# Altium footprint library Vowstar_Antenna.PcbLib: 16 footprints
Each footprint in its own frame and in the unit in brackets; x right, y up, seen from the top. Pads: shape width x height; smd on the part's side, far side on the other; paste and mask are expansions set on the pad; w line width, h text height; cw(c..) or ccw(c..) is an arc to the next point about the centre after c.
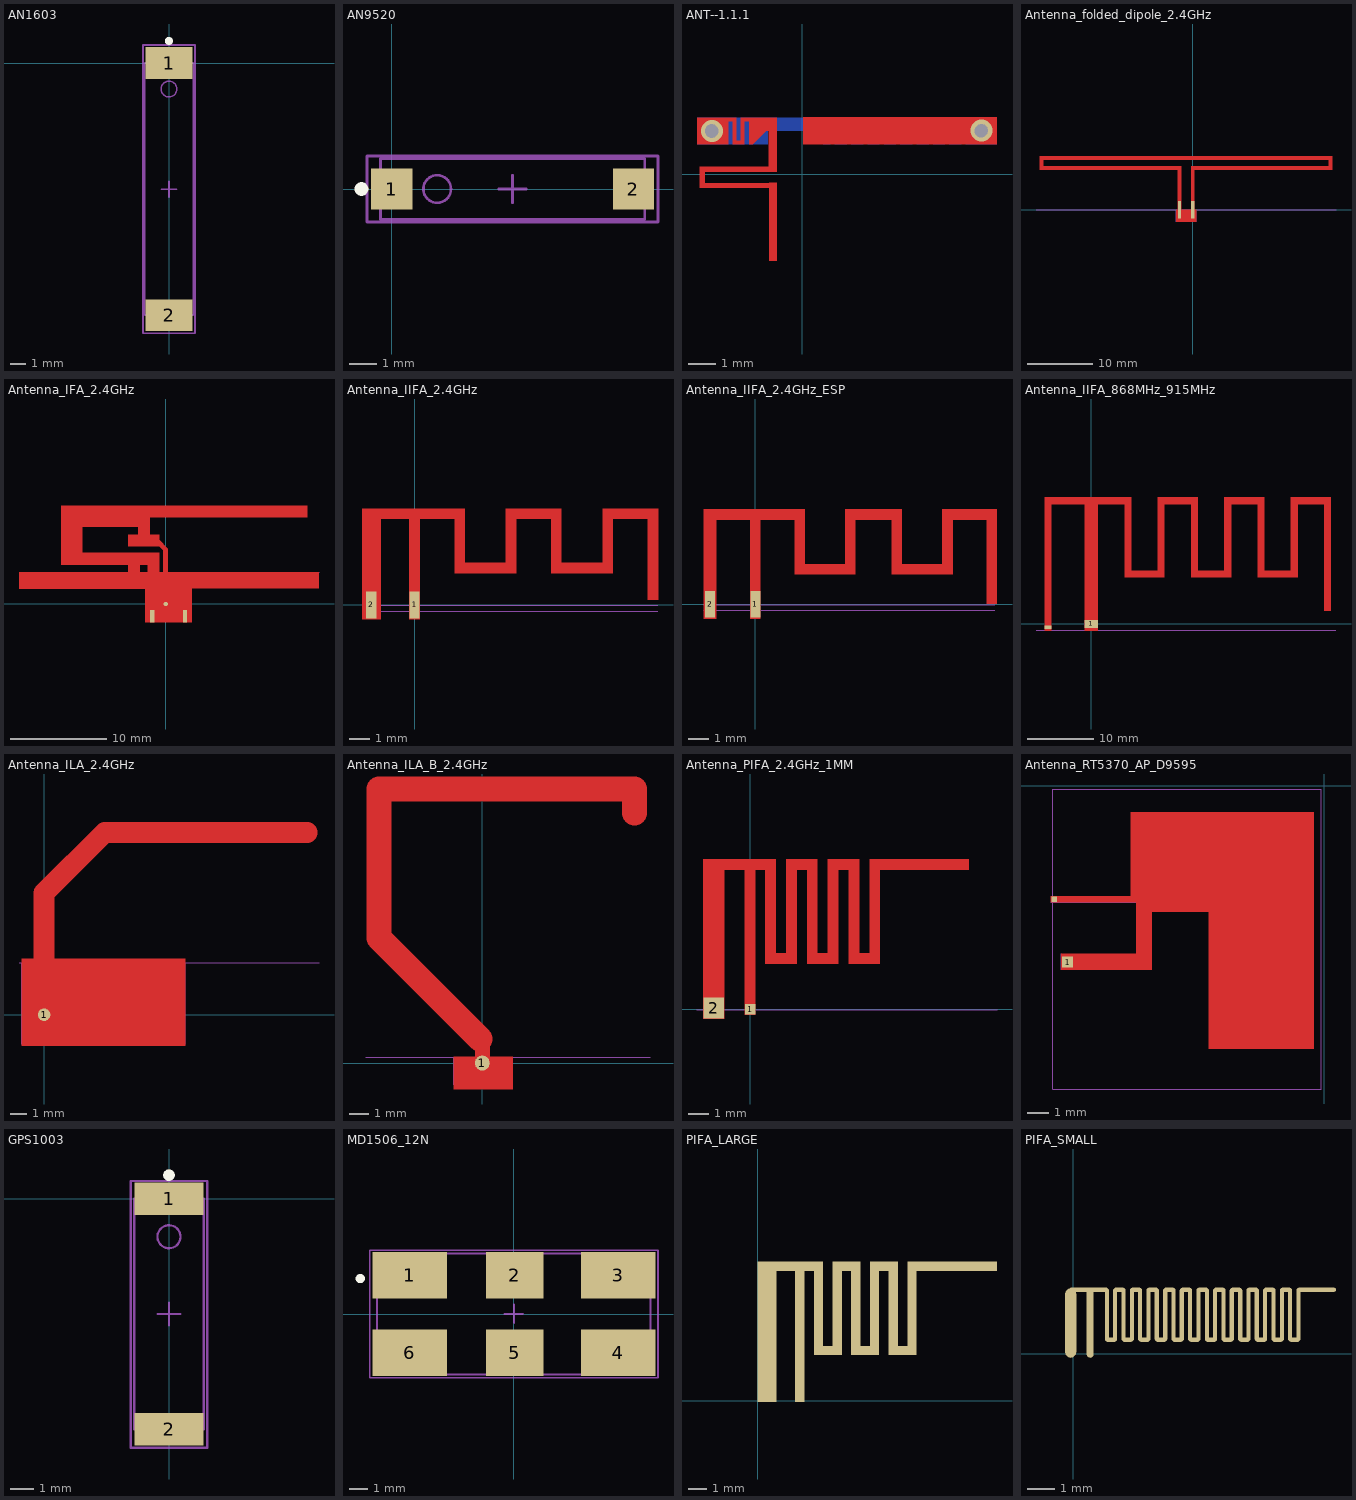
[diagram p0: the footprints below, top view; thin cyan lines are the x and y axes]

## AN1603 [mm] "AN1603 433MHz Multilayer Chip Antenna"
height 1.65
pads (2):
  rect 3x2 smd: 1(0,0) 2(0,-16)
Top Overlay:
  circle w0.25: c0,1.397 r0.125
Mechanical 13:
  circle w0.1: c0,-1.651 r0.5
  lines w0.1: -1.55,-16 1.55,-16 1.55,0 -1.55,0 -1.55,-16
  text "433MHz" at -1.27,-1.27 h0.25
Mechanical 15:
  lines w0.1: -0.5,-8 0.5,-8 ; 0,-8.5 0,-7.5 ; -1.651,-17.145 1.651,-17.145 1.651,1.143 -1.651,1.143 -1.651,-17.145
3D body: height 1.66, standoff -0.01, extent -1.56,-16 1.56,0

## AN9520 [mm] "AN9520  Multilayer Chip Antenna for  2.4GHz Wireless Communication"
height 1
pads (2):
  rect 1.5x1.5 smd: 1(0,0) 2(8.763,0)
Top Overlay:
  circle w0.25: c-1.092,0 r0.125
Mechanical 13:
  circle w0.1: c1.651,0 r0.5
  lines w0.1: -0.406,-1.092 9.169,-1.092 9.169,1.092 -0.406,1.092 -0.406,-1.092
  text "2.4GHz" at 0.991,-0.787 h0.25
Mechanical 15:
  lines w0.1: 3.881,0 4.881,0 ; 4.381,-0.5 4.381,0.5 ; -0.889,-1.194 9.652,-1.194 9.652,1.194 -0.889,1.194 -0.889,-1.194
3D body: height 1.05, standoff 0, extent -0.368,-1.05 9.132,1.05

## ANT--1.1.1 [mm]
via -3.308,1.591 diameter 0.8 hole 0.5
via 6.577,1.603 diameter 0.8 hole 0.5
Top Layer:
  region: -1.81,1.094 -1.102,1.801 -1.218,1.917 -1.926,1.21
  rectangle: -1.939,1.252 -1.767,1.623
  rectangle: -1.845,1.094 -1.809,1.264
  rectangle: -1.889,1.367 -1.541,1.504
  rectangle: -1.215,-3.175 -0.915,-0.307
  rectangle: -1.845,1.592 -0.924,2.093
  rectangle: -1.944,1.094 -1.845,2.093
  rectangle: -3.853,1.093 -2.703,2.092
  rectangle: -2.553,1.093 -2.403,2.092
  rectangle: -2.253,1.093 -2.103,2.092
  rectangle: -2.474,1.093 -2.103,1.243
  rectangle: -2.731,1.942 -2.543,2.092
  rectangle: -2.125,1.943 -1.921,2.093
  rectangle: -1.224,0.094 -0.924,2.093
  rectangle: -3.754,0.093 -1.174,0.293
  rectangle: -3.553,-0.506 -1.214,-0.308
  rectangle: -1.896,1.598 -1.299,1.74
  rectangle: -1.883,1.496 -1.413,1.699
  rectangle: -1.879,1.253 -1.658,1.285
  rectangle: -1.883,1.196 -1.772,1.242
  rectangle: -3.754,-0.507 -3.554,0.293
  rectangle: 0.038,1.093 7.148,2.101
Bottom Layer:
  rectangle: 0.774,1.093 0.947,1.175
  region: 0.865,1.184 0.043,2.006 -0.048,1.915 0.774,1.093
  rectangle: 0.947,1.093 1.046,2.092
  rectangle: 0.813,1.158 0.99,1.762
  rectangle: 1.499,1.093 1.646,2.092
  rectangle: -3.853,1.093 -1.252,2.092
  rectangle: -1.364,1.594 1.046,2.092
  rectangle: 0.391,1.474 0.957,1.68
  rectangle: 0.518,1.34 0.993,1.568
  rectangle: 0.663,1.208 0.937,1.424
  rectangle: 1.196,1.093 1.346,2.092
  rectangle: 1.798,1.093 1.948,2.092
  rectangle: 2.098,1.093 2.248,2.092
  rectangle: 2.398,1.093 2.548,2.092
  rectangle: 2.697,1.093 2.847,2.092
  rectangle: 2.997,1.093 3.147,2.092
  rectangle: 3.297,1.093 3.447,2.092
  rectangle: 3.597,1.093 3.746,2.092
  rectangle: 3.896,1.093 4.046,2.092
  rectangle: 4.196,1.093 4.346,2.092
  rectangle: 4.498,1.093 4.646,2.092
  rectangle: 4.796,1.093 4.948,2.092
  rectangle: 5.098,1.093 5.248,2.092
  rectangle: 5.397,1.093 5.547,2.092
  rectangle: 5.697,1.093 5.847,2.092
  rectangle: 5.816,1.942 6.048,2.092
  rectangle: 5.184,1.942 5.547,2.092
  rectangle: 4.564,1.942 4.948,2.092
  rectangle: 3.985,1.942 4.346,2.092
  rectangle: 3.378,1.942 3.746,2.092
  rectangle: 2.735,1.942 3.147,2.092
  rectangle: 2.159,1.942 2.547,2.092
  rectangle: 1.562,1.942 1.948,2.092
  rectangle: 0.863,1.942 1.346,2.092
  rectangle: 1.196,1.093 1.57,1.243
  rectangle: 1.798,1.093 2.194,1.243
  rectangle: 2.448,1.093 2.847,1.243
  rectangle: 3.061,1.093 3.447,1.243
  rectangle: 3.596,1.093 3.967,1.243
  rectangle: 4.196,1.093 4.582,1.243
  rectangle: 4.795,1.093 5.164,1.243
  rectangle: 5.397,1.093 5.753,1.243
  rectangle: 5.997,1.093 7.148,2.092

## Antenna_folded_dipole_2.4GHz [mil] "Folded dipole 2.4GHz PCB Antenna"
pads (2):
  rect 20x104 smd paste+0 mask+0: 1(0,0) 2(-79.85,0)
Top Layer:
  region: -69.85,0 -89.85,0 -89.85,243 -69.85,243
  region: 10,0 -10,0 -10,243 10,243
  region: 10,300 817.8,300 817.8,323 10,323
  region: -898.74,240.17 -918.74,240.17 -918.74,323.17 -898.74,323.17
  region: -898.74,323 -90,323 -90,300 -898.74,300
  region: -90,240 -898.74,240 -898.74,263 -90,263
  region: 817.8,240.17 837.8,240.17 837.8,323.17 817.8,323.17
  region: 10,240 817.8,240 817.8,263 10,263
  region: 10,240 -10,240 -10,263 10,263
  region: -70,240 -90,240 -90,263 -70,263
  region: -90,323 10,323 10,300 -90,300
  pour cut-out: -100.5,0 20.5,0 20.5,-73 -100.5,-73
Mechanical 13:
  lines w2: -942.5,0 860.5,0 ; -100.5,-73 -100.5,0 ; 20.5,-73 20.5,0
  text "2.4GHz" at 15,7 h10
  text "TOP" at 25,-45 h10
  text "BOT" at -55,5 h10

## Antenna_IFA_2.4GHz [mm] "Inverted F 2.4 GHz PCB antenna"
pads (3):
  round 0.46 smd paste-3 mask-3: 1(0,0)
  rect 0.46x1.27 smd paste-3 mask-3: 2(-1.417,-1.27) 3(2.012,-1.27)
Top Layer:
  pour cut-out: -0.68,3.318 1.25,3.318 1.25,-1.905 -0.68,-1.905
  region: -8.68,10.228 -8.68,8.018 -2.88,8.018 -2.88,10.228
  region: -3.88,6.008 -0.68,6.008 -0.68,7.218 -3.88,7.218
  region: -10.86,5.348 -10.86,4.058 -0.68,4.058 -0.68,5.348
  region: -10.86,10.228 -8.68,10.228 -8.68,5.348 -10.86,5.348
  region: -2.88,10.228 -2.88,7.218 -1.68,7.218 -1.68,10.228
  region: -1.68,10.228 -1.68,9.018 14.72,9.018 14.72,10.228
  region: -3.88,4.087 -3.88,3.287 -2.68,3.287 -2.68,4.087
  region: -1.88,4.087 -1.88,3.287 -0.68,3.287 -0.68,4.087
  region: -15.269,1.582 -15.269,3.318 -1.171,3.318 -1.171,1.582
  region: -2.154,-1.905 -0.68,-1.905 -0.68,3.287 -2.154,3.287
  region: 1.25,-1.905 2.698,-1.905 2.698,3.318 1.25,3.318
  region: 1.682,1.626 1.682,3.318 15.957,3.318 15.957,1.626
  region: -0.23,-0.059 0.23,-0.059 0.23,5.658 -0.23,5.658
  region: 0.226,5.752 0.23,5.658 -0.165,5.492 -1.06,6.388 -0.735,6.713
Mechanical 13:
  lines w0.051: -15.269,3.302 15.957,3.302
  text "2.4GHz" at 0.341,3.446 h0.25

## Antenna_IIFA_2.4GHz [mm] "Small Size IIFA 2.4 GHz PCB antenna"
pads (2):
  rect 0.5x1.3 smd paste-3 mask-3: 1(0,0) 2(-2.1,0)
Top Layer:
  region: -2.55,4.69 -2.55,4.19 2.45,4.19 2.45,4.69
  region: -0.25,4.69 -0.25,-0.7 0.25,-0.7 0.25,4.69
  region: 11.85,4.69 11.85,0.25 11.35,0.25 11.35,4.69
  region: -2.55,4.69 -2.55,-0.7 -1.65,-0.7 -1.65,4.69
  region: 4.95,1.55 4.95,4.69 4.45,4.69 4.45,1.55
  region: 9.15,4.69 9.15,4.19 11.85,4.19 11.85,4.69
  region: 9.65,1.55 9.65,4.69 9.15,4.69 9.15,1.55
  region: 6.65,2.05 6.65,1.55 9.65,1.55 9.65,2.05
  region: 1.95,1.55 1.95,4.69 2.45,4.69 2.45,1.55
  region: 1.95,2.05 1.95,1.55 4.95,1.55 4.95,2.05
  region: 4.45,4.69 4.45,4.19 7.15,4.19 7.15,4.69
  region: 7.15,4.69 7.15,1.55 6.65,1.55 6.65,4.69
Mechanical 13:
  lines w0.051: -2.55,-0.31 11.85,-0.31 ; -2.55,-0.015 11.85,-0.015
  text "TOP" at 9.779,-0.635 h0.25
  text "BOT" at 9.779,0.051 h0.25
  text "2.4GHz" at 0.381,0.178 h0.25

## Antenna_IIFA_2.4GHz_ESP [mm] "Small Size IIFA 2.4 GHz PCB antenna"
pads (2):
  rect 0.5x1.3 smd paste-3 mask-3: 1(0,0) 2(-2.236,0)
Top Layer:
  region: -2.549,4.441 -2.549,-0.712 -1.922,-0.712 -1.922,4.441
  region: -2.549,4.188 -2.549,4.688 2.451,4.688 2.451,1.988 4.451,1.988 4.451,4.688 7.251,4.688 7.251,1.988 9.251,1.988 9.251,4.688 11.951,4.688 11.951,0.015 11.451,0.015 11.451,4.188 9.751,4.188 9.751,1.488 6.751,1.488 6.751,4.188 4.951,4.188 4.951,1.488 1.951,1.488 1.951,4.188 0.251,4.188 0.251,-0.712 -0.249,-0.712 -0.249,4.188
Mechanical 13:
  lines w0.051: -2.55,-0.31 11.85,-0.31 ; -2.55,-0.015 11.85,-0.015
  text "2.4GHz" at 0.381,0.178 h0.25
  text "BOT" at 9.779,0.051 h0.25
  text "TOP" at 9.779,-0.635 h0.25

## Antenna_IIFA_868MHz_915MHz [mm] "Small Size IIFA 868MHz/915MHz PCB antenna"
pads (2):
  rect 2x1.2 smd paste-2.54 mask-2.54: 1(0,0)
  rect 1x0.508 smd paste-2.54 mask-2.54: 2(-6.5,-0.5)
Top Layer:
  region: 31,19 36,19 36,18 31,18
  region: 31,8 30,8 30,19 31,19
  region: 26,18 25,18 25,7 26,7
  region: 36,18 35,18 35,2 36,2
  region: -1,18 -7,18 -7,19 -1,19
  region: -1,-1 1,-1 1,18 -1,18
  region: 1,18 6,18 6,19 1,19
  region: 1,19 -1,19 -1,18 1,18
  region: -7,18 -6,18 -6,-1 -7,-1
  region: 6,18 5,18 5,8 6,8
  region: 5,8 11,8 11,7 5,7
  region: 11,8 10,8 10,18 11,18
  region: 10,19 16,19 16,18 10,18
  region: 16,18 15,18 15,7 16,7
  region: 16,7 21,7 21,8 16,8
  region: 21,8 20,8 20,19 21,19
  region: 21,19 26,19 26,18 21,18
  region: 26,7 31,7 31,8 26,8
Mechanical 13:
  lines w0.051: -8.31,-0.965 36.775,-0.965
  text "868MHz/915MHz" at 1.19,-0.873 h0.25

## Antenna_ILA_2.4GHz [mil] "Inverted L 2.4 GHz PCB antenna"
pads (1):
  round 30 smd paste-100 mask-100: 1(0,0)
Top Layer:
  pour cut-out: 337,134 337,-74 -53,-74 -53,134
  lines w50: 0,0 0,291 145,436 629,436
Mechanical 13:
  lines w2: -60,124 657,124 ; -53,-71 -53,124 ; 337,-71 337,124
  text "2.4GHz" at 32,6 h10
  text "BOT" at 121,109 h10
  text "TOP" at 305,-63 h10

## Antenna_ILA_B_2.4GHz [mil] "Inverted L 2.4 GHz PCB antenna"
pads (1):
  round 30 smd paste-100 mask-100: 1(0,0)
Top Layer:
  pour cut-out: 61,13 61,-52 -57,-52 -57,13
  lines w30: 0,0 0,44.5
  lines w50: -4.4,48.3 -206.4,250.4 -206.4,548.4 303.6,548.4 ; 304.6,500.1 304.6,548.4
Mechanical 13:
  lines w2: -233.5,12 -58,12 ; -57,-43 -57,11 ; -57,12 61,12 ; 61,-43 61,12 ; 336.5,12 61,12
  text "TOP" at 29,-34 h10
  text "BOT" at 20,-3 h10
  text "2.4GHz" at 30,20 h10

## Antenna_PIFA_2.4GHz_1MM [mm] "Small Size PIFA 2.4 GHz PCB antenna"
pads (2):
  rect 0.5x0.5 smd: 1(0,0)
  rect 1x1 smd: 2(-1.75,0.06)
Top Layer:
  region: -0.25,6.95 0.25,6.95 0.25,-0.25 -0.25,-0.25
  region: -2.25,7.2 1.23,7.2 1.23,6.7 -2.25,6.7
  region: 0.73,7.2 1.23,7.2 1.23,2.2 0.73,2.2
  region: 0.73,2.7 2.23,2.7 2.23,2.2 0.73,2.2
  region: 1.73,7.2 2.23,7.2 2.23,2.2 1.73,2.2
  region: 1.73,7.2 3.23,7.2 3.23,6.7 1.73,6.7
  region: 2.73,7.2 3.23,7.2 3.23,2.2 2.73,2.2
  region: 2.73,2.7 4.23,2.7 4.23,2.2 2.73,2.2
  region: 3.73,7.2 4.23,7.2 4.23,2.2 3.73,2.2
  region: 3.73,7.2 5.23,7.2 5.23,6.7 3.73,6.7
  region: 4.73,7.2 5.23,7.2 5.23,2.2 4.73,2.2
  region: 4.73,2.7 6.23,2.7 6.23,2.2 4.73,2.2
  region: 5.73,7.2 6.23,7.2 6.23,2.2 5.73,2.2
  region: -2.25,6.95 -1.25,6.95 -1.25,-0.441 -2.25,-0.441
  region: 5.73,7.2 10.5,7.2 10.5,6.7 5.73,6.7
Mechanical 13:
  lines w0.051: -2.55,-0.015 11.85,-0.015
  text "2.4GHz" at 0.381,0.178 h0.25

## Antenna_RT5370_AP_D9595 [mil] "Wi-Fi 2.4GHz PCB Antenna"
pads (2):
  rect 20x20 smd: 1(-480.71,-330.12)
  rect 10x10 smd: 2(-505.51,-212.4)
Top Layer:
  region: -511.81,-206.69 -511.81,-218.5 -352.36,-218.5 -352.36,-314.96 -492.13,-314.96 -492.13,-344.49 -322.83,-344.49 -322.83,-236.22 -216.54,-236.22 -216.54,-492.13 -19.68,-492.13 -19.68,-49.21 -362.2,-49.21 -362.2,-206.69
Top Solder:
  region: -511.81,-206.69 -511.81,-218.5 -352.36,-218.5 -352.36,-314.96 -492.13,-314.96 -492.13,-344.49 -322.83,-344.49 -322.83,-236.22 -216.54,-236.22 -216.54,-492.13 -19.68,-492.13 -19.68,-49.21 -362.2,-49.21 -362.2,-206.69
Mechanical 13:
  lines w1: -511.81,-218.5 -352.36,-218.5 ; -492.13,-344.49 -492.13,-314.96
  lines w2: -508.81,-567.87 -6,-567.87 -6,-6 -508.81,-6 -508.81,-567.87

## GPS1003 [mm] "GPS1003 1575MHz Multilayer Chip Antenna"
height 1.47
pads (2):
  rect 3x1.4 smd: 1(0,0) 2(0,-10)
Top Overlay:
  circle w0.25: c0,1.016 r0.125
Mechanical 13:
  circle w0.1: c0,-1.651 r0.5
  lines w0.1: -1.5,-10 1.5,-10 1.5,0 -1.5,0 -1.5,-10
  text "1575MHz" at -1.27,-1.016 h0.25
Mechanical 15:
  lines w0.1: -0.5,-5 0.5,-5 ; 0,-5.5 0,-4.5 ; -1.651,-10.795 1.651,-10.795 1.651,0.762 -1.651,0.762 -1.651,-10.795
3D body: height 1.48, standoff -0.01, extent -1.5,-10 1.5,0

## MD1506_12N [mm] "MD1506©\12N  (820MHz~1950MHz)Multilayer  Chip  Antenna"
pads (6):
  rect 4x2.5 smd: 1(-5.6,2.075) 3(5.6,2.075) 4(5.6,-2.075) 6(-5.6,-2.075)
  rect 3.1x2.5 smd: 2(0.05,2.075) 5(0.05,-2.075)
Top Overlay:
  circle w0.25: c-8.255,1.905 r0.125
Mechanical 13:
  lines w0.1: -7.35,-3.25 -7.35,3.25 7.35,3.25 7.35,-3.25 -7.35,-3.25
  text "820MHz~1950MHz" at -7.112,0.254 h0.25
Mechanical 15:
  lines w0.1: -0.5,0.004 0.5,0.004 ; 0,-0.496 0,0.504 ; -7.747,-3.429 7.747,-3.429 7.747,3.429 -7.747,3.429 -7.747,-3.429
3D body: height 1.6, standoff -0.01, extent -7.35,-3.25 7.35,3.25

## PIFA_LARGE [mm]
pads (15):
  rect 1x7.5 smd: ""(0.5,3.7)
  rect 3x0.5 smd: ""(2,7.2)
  rect 0.5x7 smd: ""(2.25,3.45)
  rect 0.5x5 smd: ""(3.25,4.95) ""(4.25,4.95) ""(5.25,4.95) ""(6.25,4.95) ""(7.25,4.95) ""(8.25,4.95)
  rect 1x0.5 smd: ""(3.75,2.7) ""(4.75,7.2) ""(5.75,2.7) ""(6.75,7.2) ""(7.75,2.7)
  rect 4.3x0.5 smd: ""(10.65,7.2)

## PIFA_SMALL [mm]
pads (51):
  oval 0.4x2.5 smd: ""(-0.1,1.1)
  oval 1.4x0.15 smd: ""(0.55,2.3) ""(8.75,2.3)
  oval 0.25x2.5 smd: ""(0.6,1.1)
  oval 0.15x1.9 smd: ""(1.2,1.4) ""(1.5,1.4) ""(1.8,1.4) ""(2.1,1.4) ""(2.4,1.4) ""(2.7,1.4) ""(3,1.4) ""(3.3,1.4) ""(3.6,1.4) ""(3.9,1.4) ""(4.2,1.4) ""(4.5,1.4) ""(4.8,1.4) ""(5.1,1.4) ""(5.4,1.4) ""(5.7,1.4) ""(6,1.4) ""(6.3,1.4) ""(6.6,1.4) ""(6.9,1.4) ""(7.2,1.4) ""(7.5,1.4) ""(7.8,1.4) ""(8.1,1.4)
  oval 0.4x0.15 smd: ""(1.35,0.5) ""(1.65,2.3) ""(1.95,0.5) ""(2.25,2.3) ""(2.55,0.5) ""(2.85,2.3) ""(3.15,0.5) ""(3.45,2.3) ""(3.75,0.5) ""(4.05,2.3) ""(4.35,0.5) ""(4.65,2.3) ""(4.95,0.5) ""(5.25,2.3) ""(5.55,0.5) ""(5.85,2.3) ""(6.15,0.5) ""(6.45,2.3) ""(6.75,0.5) ""(7.05,2.3) ""(7.35,0.5) ""(7.65,2.3) ""(7.95,0.5)